# Altium footprint library 29197.PcbLib: 67 footprints (part 4 of 5)
Each footprint in its own frame and in the unit in brackets; x right, y up, seen from the top. Pads: shape width x height; smd on the part's side, far side on the other; paste and mask are expansions set on the pad; w line width, h text height; cw(c..) or ccw(c..) is an arc to the next point about the centre after c.
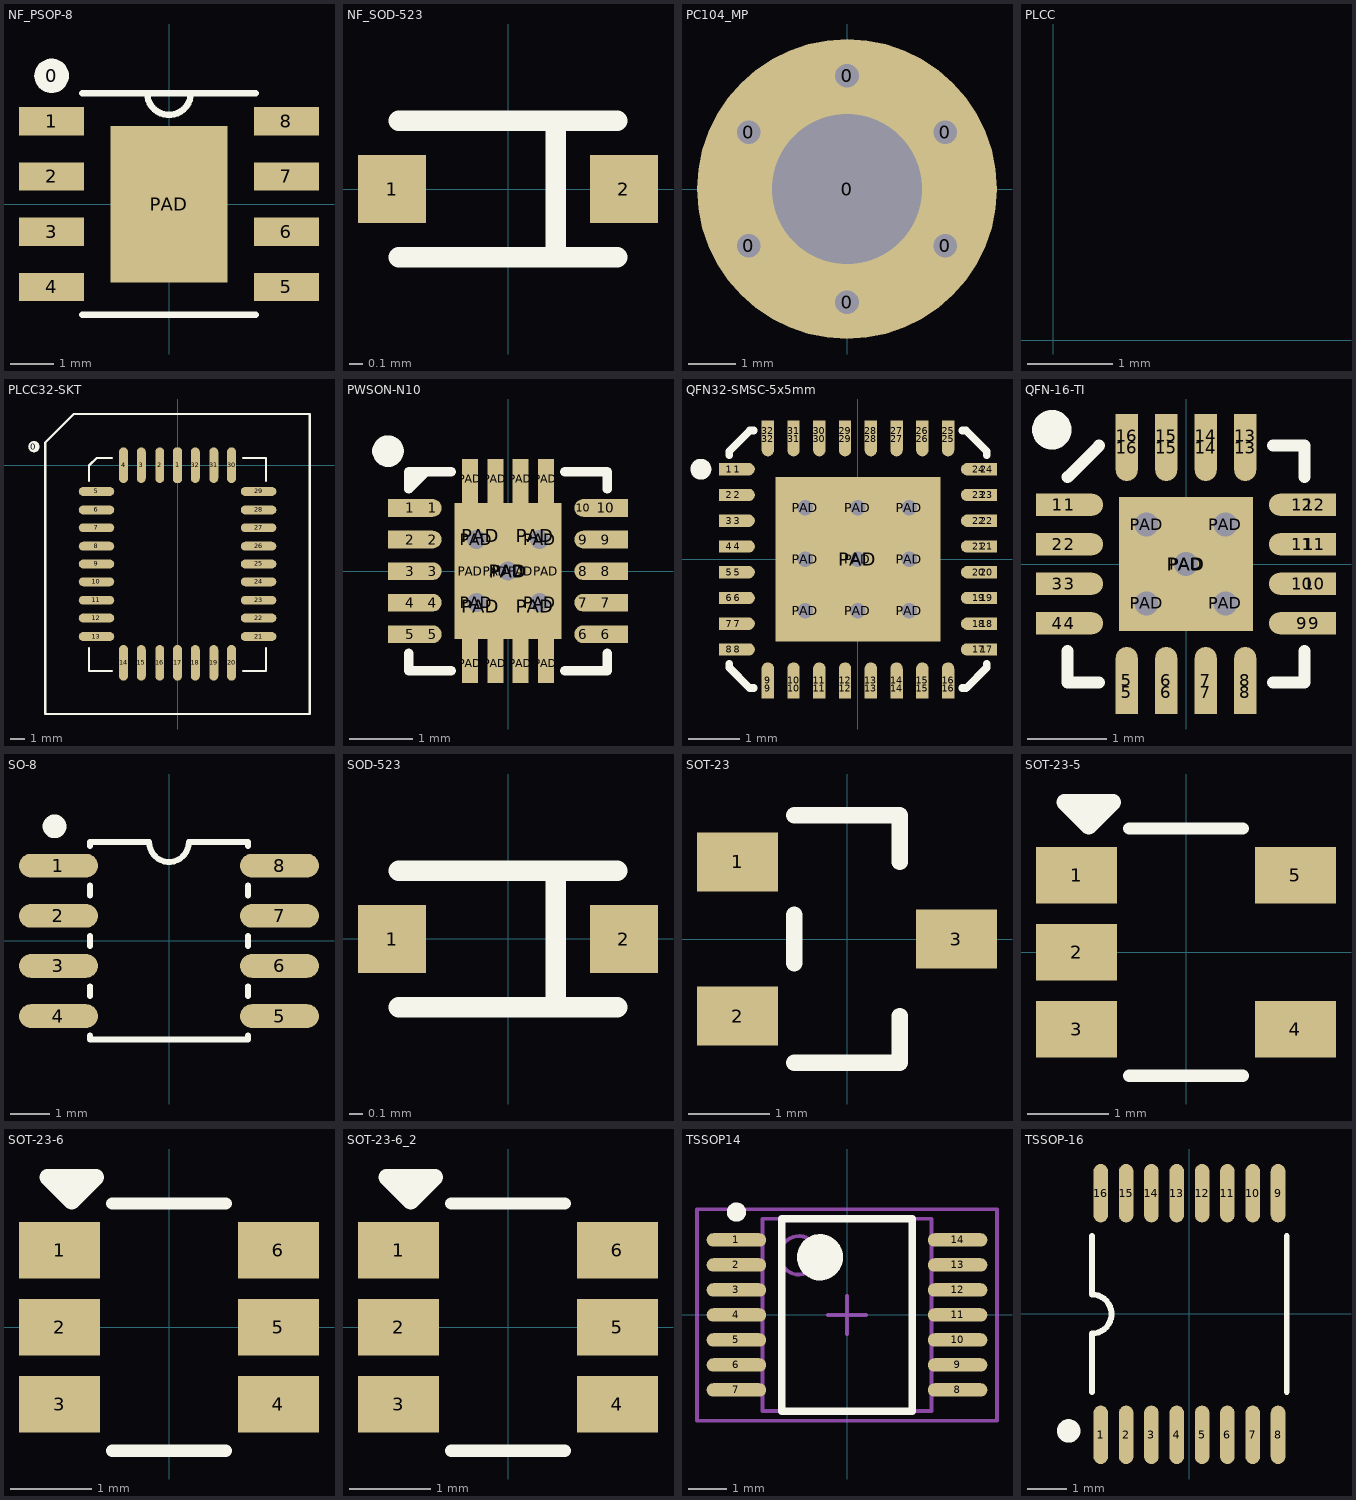
[diagram p3: the footprints below, top view; thin cyan lines are the x and y axes]

## NF_PSOP-8 [mm]
pads (10):
  round 0.8 on Top Overlay paste-1 mask+0.5: 0(-2.7,2.95)
  rect 1.5x0.65 smd paste-2: 1(-2.7,1.905) 2(-2.7,0.635) 3(-2.7,-0.635) 4(-2.7,-1.905) 5(2.7,-1.905) 6(2.7,-0.635) 7(2.7,0.635) 8(2.7,1.905)
  rect 2.7x3.6 smd paste-2: PAD(0,0)
Top Overlay:
  lines w0.15: -2,-2.55 2,-2.55 ; -2,2.55 2,2.55 ; -0.5,2.55 ccw(c0,2.55) 0.5,2.55
3D body "SO-8.STEP": height 1.84, standoff 0, extent -3.004,-2.5 3.004,2.5

## NF_SOD-523 [mm]
pads (2):
  rect 0.5x0.5 smd paste-1: 1(-0.85,0) 2(0.85,0)
Top Overlay:
  lines w0.15: -0.8,-0.5 0.8,-0.5 ; -0.8,0.5 0.8,0.5 ; 0.35,-0.5 0.35,0.5

## PC104_MP [mm]
pads (7):
  round 0.8 hole 0.5: 0(-2.078,-1.2) 0(-2.078,1.2) 0(0,-2.4) 0(0,2.4) 0(2.078,-1.2) 0(2.078,1.2)
  round 6.35 hole 3.18: 0(0,0)

## PLCC [mm]
Top Overlay:
  text "PLCC" at -0.2,0.016 h3.5

## PLCC32-SKT [mm]
pads (33):
  round 0.8 on Top Overlay paste-1 mask+0.5: 0(-10.1,1.3)
  oct 0.63x2.5 smd: 1(0,0)
  oval 0.63x2.5 smd: 2(-1.25,0) 3(-2.55,0) 4(-3.8,0) 14(-3.8,-13.9) 15(-2.55,-13.9) 16(-1.25,-13.9) 17(0,-13.9) 18(1.25,-13.9) 19(2.55,-13.9) 20(3.8,-13.9) 30(3.8,0) 31(2.55,0) 32(1.25,0)
  oval 2.5x0.63 smd: 5(-5.7,-1.85) 6(-5.7,-3.15) 7(-5.7,-4.4) 8(-5.7,-5.7) 9(-5.7,-6.95) 10(-5.7,-8.2) 11(-5.7,-9.5) 12(-5.7,-10.75) 13(-5.7,-12.05) 21(5.7,-12.05) 22(5.7,-10.75) 23(5.7,-9.5) 24(5.7,-8.2) 25(5.7,-6.95) 26(5.7,-5.7) 27(5.7,-4.4) 28(5.7,-3.15) 29(5.7,-1.85)
Top Overlay:
  lines w0.15: -6.223,-12.878 -6.223,-14.478 -4.623,-14.478 ; -6.223,-1.092 -6.223,-0.025 -5.69,0.508 -4.623,0.508 ; 4.623,-14.478 6.223,-14.478 6.223,-12.878 ; 4.623,0.508 6.223,0.508 6.223,-1.092 ; -9.3,-17.5 -9.3,1.6 -7.3,3.6 9.3,3.6 9.3,-17.5 -9.3,-17.5
3D body "8843.stp": height 4.46, standoff -0.19, extent -8.995,-17.13 9.04,3.42

## PWSON-N10 [mm]
height 2.5
pads (42):
  rect 0.71x0.28 smd paste-0.025 mask+0.07: 1(-1.545,1) 2(-1.545,0.5) 3(-1.545,0) 4(-1.545,-0.5) 5(-1.545,-1) 6(1.545,-1) 7(1.545,-0.5) 8(1.545,0) 9(1.545,0.5) 10(1.545,1)
  round 0.28 smd paste-0.025 mask+0.07: 1(-1.19,1) 2(-1.19,0.5) 3(-1.19,0) 4(-1.19,-0.5) 5(-1.19,-1) 6(1.19,-1) 7(1.19,-0.5) 8(1.19,0) 9(1.19,0.5) 10(1.19,1)
  rect 0.23x0.6 on Top Paste mask+0.07: PAD(-0.6,-1.46) PAD(-0.6,1.46) PAD(-0.2,-1.46) PAD(-0.2,1.46) PAD(0.2,-1.46) PAD(0.2,1.46) PAD(0.6,-1.46) PAD(0.6,1.46)
  rect 0.25x3.55 smd paste-5 mask+0.07: PAD(-0.6,0) PAD(-0.2,0) PAD(0.2,0) PAD(0.6,0)
  round 0.6 hole 0.3 mask+0: PAD(-0.5,-0.5) PAD(-0.5,0.5) PAD(0,0) PAD(0.5,-0.5) PAD(0.5,0.5)
  rect 0.65x0.9 on Top Paste mask+0.07: PAD(-0.435,-0.56) PAD(-0.435,0.56) PAD(0.435,-0.56) PAD(0.435,0.56)
  rect 1.7x2.15 smd paste-5 mask+0.07: PAD(0,0)
Top Overlay:
  circle w0.3: c-1.9,1.9 r0.1
  lines w0.15: -1.575,-1.3 -1.575,-1.575 -0.9,-1.575 ; -1.438,1.438 -1.575,1.575 ; -1.3,1.575 -1.575,1.3 -1.575,1.575 ; -0.9,1.575 -1.575,1.575 ; 0.9,-1.575 1.575,-1.575 1.575,-1.3 ; 0.9,1.575 1.575,1.575 1.575,1.3
3D body: height 0.8, standoff 0.05, extent -1.575,-1.575 1.575,1.575

## QFN32-SMSC-5x5mm [mm] "QFN32-SMSC-5x5mm"
height 1
pads (74):
  rect 0.4x0.24 smd paste-0.025 mask+0.05: 1(-2.5,1.75) 2(-2.5,1.25) 3(-2.5,0.75) 4(-2.5,0.25) 5(-2.5,-0.25) 6(-2.5,-0.75) 7(-2.5,-1.25) 8(-2.5,-1.75) 17(2.5,-1.75) 18(2.5,-1.25) 19(2.5,-0.75) 20(2.5,-0.25) 21(2.5,0.25) 22(2.5,0.75) 23(2.5,1.25) 24(2.5,1.75)
  oval 0.69x0.24 smd paste-0.025 mask+0.05: 1(-2.345,1.75) 2(-2.345,1.25) 3(-2.345,0.75) 4(-2.345,0.25) 5(-2.345,-0.25) 6(-2.345,-0.75) 7(-2.345,-1.25) 8(-2.345,-1.75) 17(2.345,-1.75) 18(2.345,-1.25) 19(2.345,-0.75) 20(2.345,-0.25) 21(2.345,0.25) 22(2.345,0.75) 23(2.345,1.25) 24(2.345,1.75)
  rect 0.24x0.4 smd paste-0.025 mask+0.05: 9(-1.75,-2.5) 10(-1.25,-2.5) 11(-0.75,-2.5) 12(-0.25,-2.5) 13(0.25,-2.5) 14(0.75,-2.5) 15(1.25,-2.5) 16(1.75,-2.5) 25(1.75,2.5) 26(1.25,2.5) 27(0.75,2.5) 28(0.25,2.5) 29(-0.25,2.5) 30(-0.75,2.5) 31(-1.25,2.5) 32(-1.75,2.5)
  oval 0.24x0.69 smd paste-0.025 mask+0.05: 9(-1.75,-2.345) 10(-1.25,-2.345) 11(-0.75,-2.345) 12(-0.25,-2.345) 13(0.25,-2.345) 14(0.75,-2.345) 15(1.25,-2.345) 16(1.75,-2.345) 25(1.75,2.345) 26(1.25,2.345) 27(0.75,2.345) 28(0.25,2.345) 29(-0.25,2.345) 30(-0.75,2.345) 31(-1.25,2.345) 32(-1.75,2.345)
  round 0.6 hole 0.3 mask+0: PAD(-1.025,0) PAD(-1.025,1) PAD(-1.025,-1) PAD(0,-1) PAD(0,0) PAD(0,1) PAD(1,-1) PAD(1,0) PAD(1,1)
  rect 3.2x3.2 smd paste-10 mask+0.05: PAD(0,0)
Top Overlay:
  circle w0.254: c-3.05,1.75 r0.075
  lines w0.15: -2.5,-2.025 -2.5,-2.1 -2.1,-2.5 -2.025,-2.5 ; -2.5,2.025 -2.5,2.1 -2.1,2.5 -2.025,2.5 ; 2.025,-2.5 2.1,-2.5 2.5,-2.1 2.5,-2.025 ; 2.025,2.5 2.1,2.5 2.5,2.1 2.5,2.025
Top Paste:
  region: 0.35,0.9 0.65,0.9 0.9,0.65 0.9,0.35 0.65,0.1 0.35,0.1 0.1,0.35 0.1,0.65
  region: 0.35,-0.1 0.65,-0.1 0.9,-0.35 0.9,-0.65 0.65,-0.9 0.35,-0.9 0.1,-0.65 0.1,-0.35
  region: -0.65,-0.1 -0.35,-0.1 -0.1,-0.35 -0.1,-0.65 -0.35,-0.9 -0.65,-0.9 -0.9,-0.65 -0.9,-0.35
  region: -0.65,0.9 -0.35,0.9 -0.1,0.65 -0.1,0.35 -0.35,0.1 -0.65,0.1 -0.9,0.35 -0.9,0.65
  region: -0.65,-1.1 -0.35,-1.1 -0.1,-1.35 -0.1,-1.5 -0.9,-1.5 -0.9,-1.35
  region: 0.65,-1.1 0.35,-1.1 0.1,-1.35 0.1,-1.5 0.9,-1.5 0.9,-1.35
  region: 1.1,0.65 1.1,0.35 1.35,0.1 1.5,0.1 1.5,0.9 1.35,0.9
  region: 1.1,-0.65 1.1,-0.35 1.35,-0.1 1.5,-0.1 1.5,-0.9 1.35,-0.9
  region: -0.65,1.1 -0.35,1.1 -0.1,1.35 -0.1,1.5 -0.9,1.5 -0.9,1.35
  region: 0.65,1.1 0.35,1.1 0.1,1.35 0.1,1.5 0.9,1.5 0.9,1.35
  region: -1.125,-0.65 -1.125,-0.35 -1.375,-0.1 -1.525,-0.1 -1.525,-0.9 -1.375,-0.9
  region: -1.125,0.65 -1.125,0.35 -1.375,0.1 -1.525,0.1 -1.525,0.9 -1.375,0.9
  region: 1.325,-1.125 1.1,-1.325 1.1,-1.5 1.5,-1.5 1.5,-1.225 1.5,-1.125
  region: 1.125,1.325 1.325,1.1 1.5,1.1 1.5,1.5 1.225,1.5 1.125,1.5
  region: -1.35,1.125 -1.125,1.325 -1.125,1.5 -1.525,1.5 -1.525,1.225 -1.525,1.125
  region: -1.15,-1.325 -1.35,-1.1 -1.525,-1.1 -1.525,-1.5 -1.25,-1.5 -1.15,-1.5
3D body: height 1, standoff 0, extent -2.5,-2.5 2.5,2.5

## QFN-16-TI [mm] "Quad flat no-lead 16-pin Linear Technology"
height 0.75
pads (38):
  rect 0.55x0.28 smd paste-0.025 mask+0.07: 1(-1.625,0.75) 2(-1.625,0.25) 3(-1.625,-0.25) 4(-1.625,-0.75) 9(1.625,-0.75) 10(1.625,-0.25) 11(1.625,0.25) 12(1.625,0.75)
  oval 0.85x0.28 smd paste-0.025 mask+0.07: 1(-1.475,0.75) 2(-1.475,0.25) 3(-1.475,-0.25) 4(-1.475,-0.75) 9(1.475,-0.75) 10(1.475,-0.25) 11(1.475,0.25) 12(1.475,0.75)
  rect 0.28x0.55 smd paste-0.025 mask+0.07: 5(-0.75,-1.625) 6(-0.25,-1.625) 7(0.25,-1.625) 8(0.75,-1.625) 13(0.75,1.625) 14(0.25,1.625) 15(-0.25,1.625) 16(-0.75,1.625)
  oval 0.28x0.85 smd paste-0.025 mask+0.07: 5(-0.75,-1.475) 6(-0.25,-1.475) 7(0.25,-1.475) 8(0.75,-1.475) 13(0.75,1.475) 14(0.25,1.475) 15(-0.25,1.475) 16(-0.75,1.475)
  round 0.5 hole 0.3 mask+0: PAD(-0.5,-0.5) PAD(-0.5,0.5) PAD(0,0) PAD(0.5,-0.5) PAD(0.5,0.5)
  rect 1.7x1.7 smd paste-1.7 mask+0.07: PAD(0,0)
Top Overlay:
  circle w0.3: c-1.7,1.7 r0.1
  lines w0.15: -1.5,-1.1 -1.5,-1.5 -1.1,-1.5 ; -1.5,1.1 -1.1,1.5 ; 1.1,-1.5 1.5,-1.5 1.5,-1.1 ; 1.1,1.5 1.5,1.5 1.5,1.1
Top Paste:
  region: 0.1,-0.1 0.1,-0.8 0.8,-0.8 0.8,-0.1
  region: -0.1,-0.1 -0.8,-0.1 -0.8,-0.8 -0.1,-0.8
  region: -0.1,0.1 -0.1,0.8 -0.8,0.8 -0.8,0.1
  rectangle: 0.1,0.1 0.8,0.8
3D body: height 0.9, standoff 0.05, extent -1.5,-1.5 1.5,1.5

## SO-8 [mm] "8 pin Small Outline SMD"
height 1.75
pads (8):
  oval 2x0.6 smd paste-0.025: 1(-2.8,1.905) 2(-2.8,0.635) 3(-2.8,-0.635) 4(-2.8,-1.905) 5(2.8,-1.905) 6(2.8,-0.635) 7(2.8,0.635) 8(2.8,1.905)
Top Overlay:
  circle w0.4: c-2.9,2.9 r0.1
  lines w0.15: -2,-2.4 -2,-2.5 2,-2.5 2,-2.4 ; -2,-1.4 -2,-1.15 ; -2,-0.125 -2,0.125 ; -2,1.15 -2,1.4 ; -2,2.4 -2,2.5 -0.5,2.5 ccw(c0,2.5) 0.5,2.5 2,2.5 2,2.4 ; 2,-1.4 2,-1.15 ; 2,-0.125 2,0.125 ; 2,1.15 2,1.4
3D body "SO-8.STEP": height 1.84, standoff 0, extent -3.004,-2.5 3.004,2.5

## SOD-523 [mm]
height 2.438
pads (2):
  rect 0.5x0.5 smd: 1(-0.85,0) 2(0.85,0)
Top Overlay:
  lines w0.15: -0.8,-0.5 0.8,-0.5 ; -0.8,0.5 0.8,0.5 ; 0.35,-0.5 0.35,0.5
3D body: height 0.2, standoff 0, extent -0.8,-0.15 -0.6,0.15
3D body: height 0.7, standoff 0, extent -0.6,-0.4 0.6,0.4
3D body: height 0.2, standoff 0, extent 0.6,-0.15 0.8,0.15
3D body: height 0.71, standoff 0.7, extent 0.2,-0.4 0.4,0.4

## SOT-23 [mm] "3 pin SOT-23 SMD"
height 1.11
pads (3):
  rect 1x0.725 smd: 1(-1.35,0.95) 2(-1.35,-0.95) 3(1.35,0)
Top Overlay:
  lines w0.2: -0.65,-1.525 0.65,-1.525 0.65,-0.95 ; -0.65,-0.3 -0.65,0.3 ; -0.65,1.525 0.65,1.525 0.65,0.95
3D body: height 0.15, standoff 0, extent 0.875,-0.225 1.375,0.225
3D body: height 1, standoff 0.05, extent -0.65,-1.45 0.65,1.45
3D body: height 0.5, standoff 0.35, extent 0.65,-0.225 0.875,0.225
3D body: height 0.5, standoff 0, extent 0.875,-0.225 1.1,0.225
3D body: height 0.5, standoff 0, extent -1.1,0.725 -0.875,1.175
3D body: height 0.5, standoff 0.35, extent -0.875,0.725 -0.65,1.175
3D body: height 0.15, standoff 0, extent -1.375,0.725 -0.875,1.175
3D body: height 0.5, standoff 0, extent -1.1,-1.175 -0.875,-0.725
3D body: height 0.5, standoff 0.35, extent -0.875,-1.175 -0.65,-0.725
3D body: height 0.15, standoff 0, extent -1.375,-1.175 -0.875,-0.725

## SOT-23-5 [mm] "6 pin SOT23 SMD"
height 1.11
pads (5):
  rect 1x0.7 smd paste-0.025: 1(-1.35,0.95) 2(-1.35,0) 3(-1.35,-0.95) 4(1.35,-0.95) 5(1.35,0.95)
Top Overlay:
  lines w0.15: -0.7,-1.525 0.7,-1.525 ; -0.7,1.525 0.7,1.525
  lines w0.2: -1.2,1.85 -1.2,1.55 ; -1.2,1.55 -1.5,1.85 -0.9,1.85 -1.2,1.55
3D body: height 0.15, standoff 0, extent -1.375,-1.175 -0.875,-0.725
3D body: height 0.5, standoff 0.35, extent -0.875,-1.175 -0.65,-0.725
3D body: height 0.5, standoff 0, extent -1.1,-1.175 -0.875,-0.725
3D body: height 0.15, standoff 0, extent -1.375,0.725 -0.875,1.175
3D body: height 0.5, standoff 0.35, extent -0.875,0.725 -0.65,1.175
3D body: height 0.5, standoff 0, extent -1.1,0.725 -0.875,1.175
3D body: height 1, standoff 0.05, extent -0.65,-1.45 0.65,1.45
3D body: height 0.5, standoff 0, extent -1.1,-0.225 -0.875,0.225
3D body: height 0.5, standoff 0.35, extent -0.875,-0.225 -0.65,0.225
3D body: height 0.15, standoff 0, extent -1.375,-0.225 -0.875,0.225
3D body: height 0.5, standoff 0, extent 0.875,0.725 1.1,1.175
3D body: height 0.5, standoff 0.35, extent 0.65,0.725 0.875,1.175
3D body: height 0.15, standoff 0, extent 0.875,0.725 1.375,1.175
3D body: height 0.5, standoff 0, extent 0.875,-1.175 1.1,-0.725
3D body: height 0.5, standoff 0.35, extent 0.65,-1.175 0.875,-0.725
3D body: height 0.15, standoff 0, extent 0.875,-1.175 1.375,-0.725
3D body: height 1.01, standoff 1, extent -0.575,0.75 -0.177,1.149

## SOT-23-6 [mm] "6 pin SOT23 SMD"
height 1.11
pads (6):
  rect 1x0.7 smd paste-0.025: 1(-1.35,0.95) 2(-1.35,0) 3(-1.35,-0.95) 4(1.35,-0.95) 5(1.35,0) 6(1.35,0.95)
Top Overlay:
  lines w0.15: -0.7,-1.525 0.7,-1.525 ; -0.7,1.525 0.7,1.525
  lines w0.2: -1.2,1.85 -1.2,1.55 ; -1.2,1.55 -0.9,1.85 -1.5,1.85 -1.2,1.55
3D body: height 1.01, standoff 1, extent -0.575,0.75 -0.177,1.149
3D body: height 0.5, standoff 0, extent 0.875,-0.225 1.1,0.225
3D body: height 0.5, standoff 0.35, extent 0.65,-0.225 0.875,0.225
3D body: height 0.15, standoff 0, extent 0.875,-0.225 1.375,0.225
3D body: height 0.15, standoff 0, extent 0.875,-1.175 1.375,-0.725
3D body: height 0.5, standoff 0.35, extent 0.65,-1.175 0.875,-0.725
3D body: height 0.5, standoff 0, extent 0.875,-1.175 1.1,-0.725
3D body: height 0.15, standoff 0, extent 0.875,0.725 1.375,1.175
3D body: height 0.5, standoff 0.35, extent 0.65,0.725 0.875,1.175
3D body: height 0.5, standoff 0, extent 0.875,0.725 1.1,1.175
3D body: height 0.15, standoff 0, extent -1.375,-0.225 -0.875,0.225
3D body: height 0.5, standoff 0.35, extent -0.875,-0.225 -0.65,0.225
3D body: height 0.5, standoff 0, extent -1.1,-0.225 -0.875,0.225
3D body: height 1, standoff 0.05, extent -0.65,-1.45 0.65,1.45
3D body: height 0.5, standoff 0, extent -1.1,0.725 -0.875,1.175
3D body: height 0.5, standoff 0.35, extent -0.875,0.725 -0.65,1.175
3D body: height 0.15, standoff 0, extent -1.375,0.725 -0.875,1.175
3D body: height 0.5, standoff 0, extent -1.1,-1.175 -0.875,-0.725
3D body: height 0.5, standoff 0.35, extent -0.875,-1.175 -0.65,-0.725
3D body: height 0.15, standoff 0, extent -1.375,-1.175 -0.875,-0.725

## SOT-23-6_2 [mm]
pads (6):
  rect 1x0.7 smd paste-0.025: 1(-1.35,0.95) 2(-1.35,0) 3(-1.35,-0.95) 4(1.35,-0.95) 5(1.35,0) 6(1.35,0.95)
Top Overlay:
  lines w0.15: -0.7,-1.525 0.7,-1.525 ; -0.7,1.525 0.7,1.525
  lines w0.2: -1.2,1.85 -1.2,1.55 ; -1.2,1.55 -0.9,1.85 -1.5,1.85 -1.2,1.55
3D body: height 1.01, standoff 1, extent -0.575,0.75 -0.177,1.149
3D body: height 0.5, standoff 0, extent 0.875,-0.225 1.1,0.225
3D body: height 0.5, standoff 0.35, extent 0.65,-0.225 0.875,0.225
3D body: height 0.15, standoff 0, extent 0.875,-0.225 1.375,0.225
3D body: height 0.15, standoff 0, extent 0.875,-1.175 1.375,-0.725
3D body: height 0.5, standoff 0.35, extent 0.65,-1.175 0.875,-0.725
3D body: height 0.5, standoff 0, extent 0.875,-1.175 1.1,-0.725
3D body: height 0.15, standoff 0, extent 0.875,0.725 1.375,1.175
3D body: height 0.5, standoff 0.35, extent 0.65,0.725 0.875,1.175
3D body: height 0.5, standoff 0, extent 0.875,0.725 1.1,1.175
3D body: height 0.15, standoff 0, extent -1.375,-0.225 -0.875,0.225
3D body: height 0.5, standoff 0.35, extent -0.875,-0.225 -0.65,0.225
3D body: height 0.5, standoff 0, extent -1.1,-0.225 -0.875,0.225
3D body: height 1, standoff 0.05, extent -0.65,-1.45 0.65,1.45
3D body: height 0.5, standoff 0, extent -1.1,0.725 -0.875,1.175
3D body: height 0.5, standoff 0.35, extent -0.875,0.725 -0.65,1.175
3D body: height 0.15, standoff 0, extent -1.375,0.725 -0.875,1.175
3D body: height 0.5, standoff 0, extent -1.1,-1.175 -0.875,-0.725
3D body: height 0.5, standoff 0.35, extent -0.875,-1.175 -0.65,-0.725
3D body: height 0.15, standoff 0, extent -1.375,-1.175 -0.875,-0.725

## TSSOP14 [mm] "TSOP, 14-Leads, Body 5.0x4.4mm (max), Pitch 0.65mm, IPC Medium Density"
height 1.2
pads (14):
  oval 1.55x0.35 smd: 1(-2.875,1.95) 2(-2.875,1.3) 3(-2.875,0.65) 4(-2.875,0) 5(-2.875,-0.65) 6(-2.875,-1.3) 7(-2.875,-1.95) 8(2.875,-1.95) 9(2.875,-1.3) 10(2.875,-0.65) 11(2.875,0) 12(2.875,0.65) 13(2.875,1.3) 14(2.875,1.95)
Top Overlay:
  circle w0.6: c-0.7,1.5 r0.3
  circle w0.25: c-2.875,2.675 r0.125
  lines w0.2: -1.7,-2.5 1.7,-2.5 1.7,2.5 -1.7,2.5 -1.7,-2.5
Mechanical 13:
  circle w0.1: c-1.25,1.55 r0.5
  lines w0.1: -2.2,-2.5 2.2,-2.5 2.2,2.5 -2.2,2.5 -2.2,-2.5
Mechanical 15:
  lines w0.1: -0.5,0 0.5,0 ; 0,-0.5 0,0.5 ; -3.9,-2.75 3.9,-2.75 3.9,2.75 -3.9,2.75 -3.9,-2.75
3D body: height 1.21, standoff 1.2, extent -1.7,1.55 -1.302,1.949
3D body: height 0.15, standoff 0, extent -3.2,1.825 -2.55,2.075
3D body: height 0.6, standoff 0, extent -2.7,1.825 -2.55,2.075
3D body: height 0.6, standoff 0.45, extent -2.55,1.825 -2.2,2.075
3D body: height 0.15, standoff 0, extent -3.2,1.175 -2.55,1.425
3D body: height 0.6, standoff 0, extent -2.7,1.175 -2.55,1.425
3D body: height 0.6, standoff 0.45, extent -2.55,1.175 -2.2,1.425
3D body: height 0.15, standoff 0, extent -3.2,0.525 -2.55,0.775
3D body: height 0.6, standoff 0, extent -2.7,0.525 -2.55,0.775
3D body: height 0.6, standoff 0.45, extent -2.55,0.525 -2.2,0.775
3D body: height 0.15, standoff 0, extent -3.2,-0.125 -2.55,0.125
3D body: height 0.6, standoff 0, extent -2.7,-0.125 -2.55,0.125
3D body: height 0.6, standoff 0.45, extent -2.55,-0.125 -2.2,0.125
3D body: height 0.15, standoff 0, extent -3.2,-0.775 -2.55,-0.525
3D body: height 0.6, standoff 0, extent -2.7,-0.775 -2.55,-0.525
3D body: height 0.6, standoff 0.45, extent -2.55,-0.775 -2.2,-0.525
3D body: height 0.15, standoff 0, extent -3.2,-1.425 -2.55,-1.175
3D body: height 0.6, standoff 0, extent -2.7,-1.425 -2.55,-1.175
3D body: height 0.6, standoff 0.45, extent -2.55,-1.425 -2.2,-1.175
3D body: height 0.15, standoff 0, extent -3.2,-2.075 -2.55,-1.825
3D body: height 0.6, standoff 0, extent -2.7,-2.075 -2.55,-1.825
3D body: height 0.6, standoff 0.45, extent -2.55,-2.075 -2.2,-1.825
3D body: height 0.6, standoff 0.45, extent 2.2,-2.075 2.55,-1.825
3D body: height 0.6, standoff 0, extent 2.55,-2.075 2.7,-1.825
3D body: height 0.15, standoff 0, extent 2.55,-2.075 3.2,-1.825
3D body: height 0.6, standoff 0.45, extent 2.2,-1.425 2.55,-1.175
3D body: height 0.6, standoff 0, extent 2.55,-1.425 2.7,-1.175
3D body: height 0.15, standoff 0, extent 2.55,-1.425 3.2,-1.175
3D body: height 0.6, standoff 0.45, extent 2.2,-0.775 2.55,-0.525
3D body: height 0.6, standoff 0, extent 2.55,-0.775 2.7,-0.525
3D body: height 0.15, standoff 0, extent 2.55,-0.775 3.2,-0.525
3D body: height 0.6, standoff 0.45, extent 2.2,-0.125 2.55,0.125
3D body: height 0.6, standoff 0, extent 2.55,-0.125 2.7,0.125
3D body: height 0.15, standoff 0, extent 2.55,-0.125 3.2,0.125
3D body: height 0.6, standoff 0.45, extent 2.2,0.525 2.55,0.775
3D body: height 0.6, standoff 0, extent 2.55,0.525 2.7,0.775
3D body: height 0.15, standoff 0, extent 2.55,0.525 3.2,0.775
3D body: height 0.6, standoff 0.45, extent 2.2,1.175 2.55,1.425
3D body: height 0.6, standoff 0, extent 2.55,1.175 2.7,1.425
3D body: height 0.15, standoff 0, extent 2.55,1.175 3.2,1.425
3D body: height 0.6, standoff 0.45, extent 2.2,1.825 2.55,2.075
3D body: height 0.6, standoff 0, extent 2.55,1.825 2.7,2.075
3D body: height 0.15, standoff 0, extent 2.55,1.825 3.2,2.075
3D body: height 1.2, standoff 0.1, extent -2.2,-2.5 2.2,2.5

## TSSOP-16 [mm]
height 1.75
pads (16):
  oval 0.375x1.5 smd paste-0.025: 1(-2.275,-3.1) 2(-1.625,-3.1) 3(-0.975,-3.1) 4(-0.325,-3.1) 5(0.325,-3.1) 6(0.975,-3.1) 7(1.625,-3.1) 8(2.275,-3.1) 9(2.275,3.1) 10(1.625,3.1) 11(0.975,3.1) 12(0.325,3.1) 13(-0.325,3.1) 14(-0.975,3.1) 15(-1.625,3.1) 16(-2.275,3.1)
Top Overlay:
  circle w0.4: c-3.1,-3 r0.1
  lines w0.15: -2.5,-2 -2.5,-0.5 ccw(c-2.5,0) -2.5,0.5 -2.5,2 ; 2.5,-2 2.5,2
3D body "MAX3221.STEP": height 1.2, standoff 0, extent -2.543,-3.301 2.557,3.294